# Altium footprint library 800U R3N3_SENSOR_V1.4.PcbLib: 7 footprints
Each footprint in its own frame and in the unit in brackets; x right, y up, seen from the top. Pads: shape width x height; smd on the part's side, far side on the other; paste and mask are expansions set on the pad; w line width, h text height; cw(c..) or ccw(c..) is an arc to the next point about the centre after c.
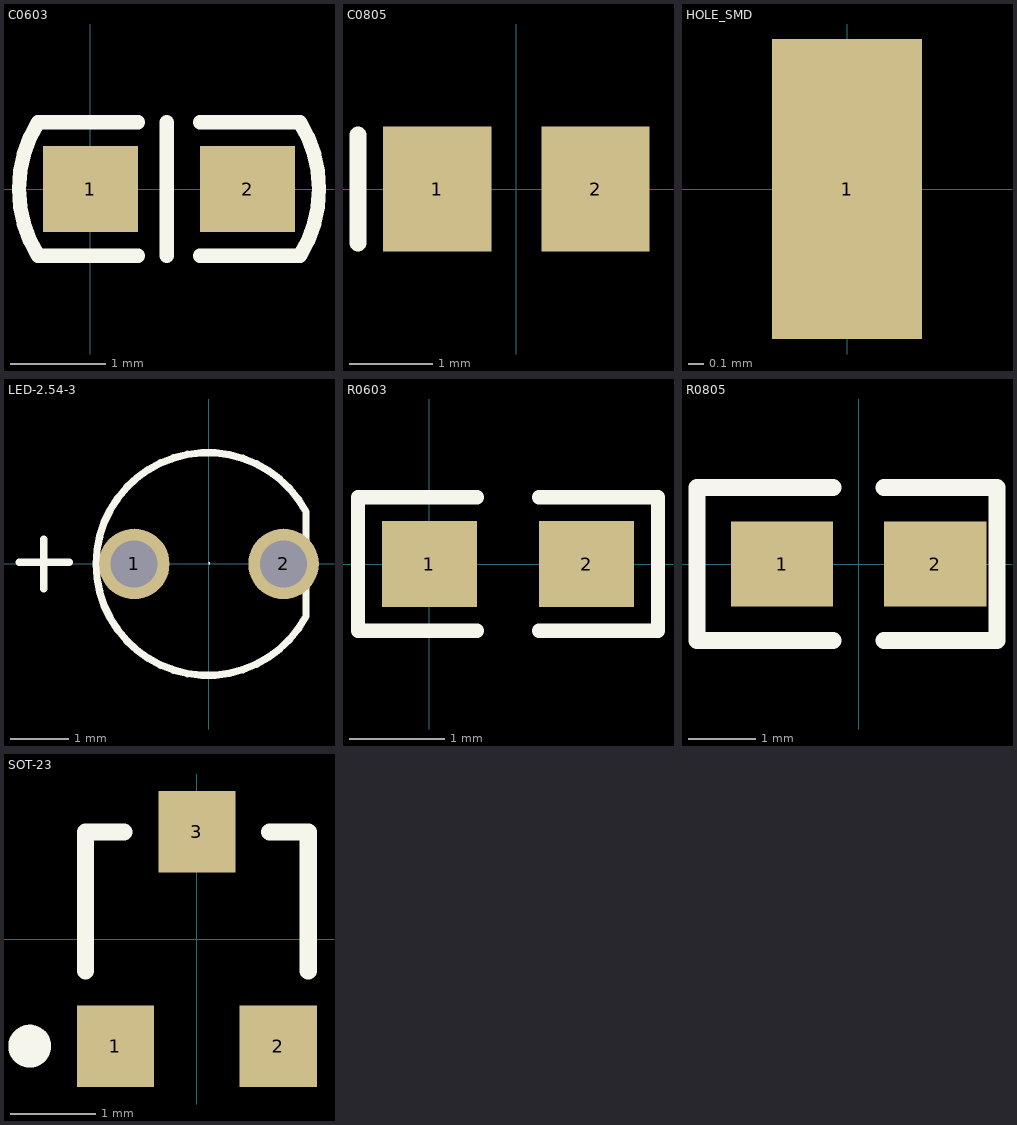
[diagram p0: the footprints below, top view; thin cyan lines are the x and y axes]

## C0603 [mm]
height 5.4
pads (2):
  rect 1x0.9 smd: 1(0,0) 2(1.65,0)
Top Overlay:
  lines w0.15: 0.5,-0.7 -0.55,-0.7 cw(c0.575,0) -0.55,0.7 0.5,0.7 ; 0.8,-0.7 0.8,0.7 ; 1.15,-0.7 2.2,-0.7 ccw(c1.075,0) 2.2,0.7 1.15,0.7

## C0805 [mm] "Chip Capacitor; Body 2.0 x"
height 1.1
pads (2):
  rect 1.3x1.5 smd: 1(-0.95,0) 2(0.95,0)
Top Overlay:
  lines w0.2: -1.9,-0.65 -1.9,0.65

## HOLE_SMD [mm]
height 5.4
pads (1):
  rect 1x2 smd: 1(0,0)

## LED-2.54-3 [mm]
pads (2):
  round 1.2 hole 0.8: 1(-1.27,0) 2(1.27,0)
Top Overlay:
  lines w0.01: -0.006,0.005 ccw(c0.003,0.01) -0.006,0.015
  lines w0.125: -3.23,0.03 -2.37,0.03 ; -2.81,-0.42 -2.81,0.42 ; 1.651,-0.89 cw(c-0.022,-0.001) 1.651,0.889 1.651,-0.851

## R0603 [mm]
height 5.4
pads (2):
  rect 1x0.9 smd: 1(0,0) 2(1.65,0)
Top Overlay:
  lines w0.15: 0.5,-0.7 -0.75,-0.7 -0.75,0.7 0.5,0.7 ; 1.15,-0.7 2.4,-0.7 2.4,0.7 1.15,0.7

## R0805 [mil]
height 212.6
pads (2):
  rect 60x50 smd: 1(-45,0) 2(45,0)
Top Overlay:
  lines w10: -15,-45 -95,-45 -95,45 -15,45 ; 15,-45 81.3,-45 81.3,45 15,45

## SOT-23 [mm] "SOT-23; 3 Leads; Body 3.0 x 2.6 mm"
height 1.1
pads (3):
  rect 0.9x0.95 smd: 1(-0.95,-1.25) 2(0.95,-1.25) 3(0,1.25)
Top Overlay:
  circle w0.25: c-1.95,-1.25 r0.125
  lines w0.2: -1.3,-0.375 -1.3,1.25 -0.85,1.25 ; 0.85,1.25 1.3,1.25 1.3,-0.375